# Altium footprint library Chip_kz85.PcbLib: 314 footprints (part 19 of 20)
Each footprint in its own frame and in the unit in brackets; x right, y up, seen from the top. Pads: shape width x height; smd on the part's side, far side on the other; paste and mask are expansions set on the pad; w line width, h text height; cw(c..) or ccw(c..) is an arc to the next point about the centre after c.
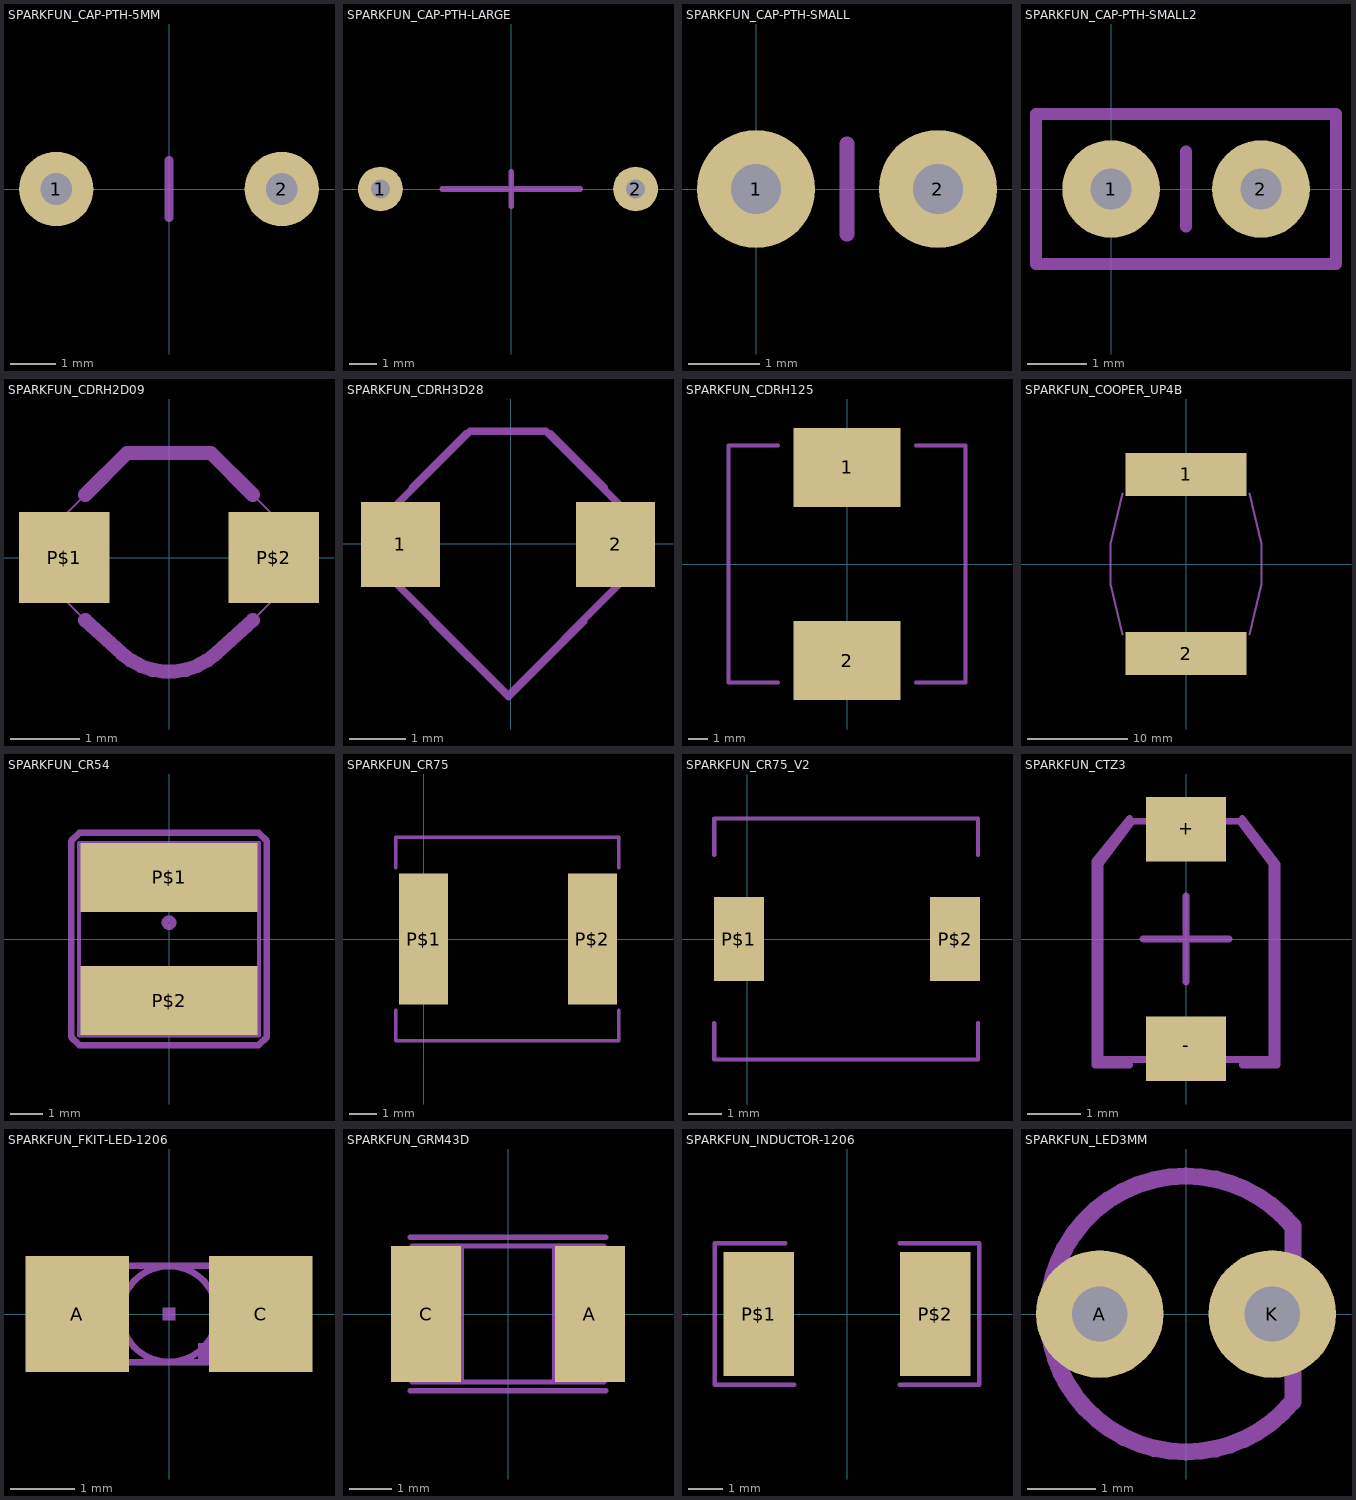
[diagram p18: the footprints below, top view; thin cyan lines are the x and y axes]

## SPARKFUN_CAP-PTH-5MM [mil]
pads (2):
  round 65 hole 27.56: 1(-98.43,0) 2(98.43,0)
Mechanical 7:
  lines w8: 0,-25 0,25

## SPARKFUN_CAP-PTH-LARGE [mil]
pads (2):
  round 65 hole 27.56: 1(-190,0) 2(180,0)
Mechanical 7:
  lines w8: -100,0 0,0 ; 0,-25 0,0 ; 0,25 0,0 ; 100,0 0,0

## SPARKFUN_CAP-PTH-SMALL [mil]
pads (2):
  round 65 hole 27.56: 1(0,0) 2(100,0)
Mechanical 7:
  lines w8: 50,-25 50,25

## SPARKFUN_CAP-PTH-SMALL2 [mil]
pads (2):
  round 65 hole 27.56: 1(0,0) 2(100,0)
Mechanical 7:
  lines w8: 50,-25 50,25 ; -50,-50 150,-50 150,50 -50,50 -50,-50

## SPARKFUN_CDRH2D09 [mil]
pads (2):
  rect 51.18x51.18 smd: P$1(-59.06,0) P$2(59.06,0)
Mechanical 3:
  lines w1.18: -59.06,-23.62 -59.06,23.62 -23.62,59.06 23.62,59.06 59.06,23.62 59.06,-23.62 27.84,-54.84 cw(c0,-27) -27.84,-54.84 -59.06,-23.62
Mechanical 7:
  lines w8: -47.24,-35.43 -26.7,-54.09 ccw(c0,-25.17) 26.7,-54.09 47.24,-35.43 ; -47.24,35.43 -23.62,59.06 23.62,59.06 47.24,35.43

## SPARKFUN_CDRH3D28 [mil]
pads (2):
  rect 55.12x59.06 smd: 1(-76.79,-0.28) 2(72.8,-0.28)
Mechanical 3:
  lines w5: -80.72,-26.65 -80.73,26.1 -28.37,78.45 24.38,78.45 76.74,26.09 76.74,-26.65 ; -80.45,-26.77 -2.11,-105.11 ; -1.99,-105.31 76.78,-26.52
Mechanical 7:
  lines w5: -68.64,39.37 -31.08,76.93 ; -54.27,-53.74 -1.72,-106.3 50.84,-53.74 ; 27.65,76.92 65.21,39.37

## SPARKFUN_CDRH125 [mm]
pads (2):
  rect 5.4x4 smd: 1(0,4.9) 2(0,-4.9)
Mechanical 7:
  lines w0.203: -3.5,-6 -6,-6 -6,6 -3.5,6 ; 3.5,-6 6,-6 6,6 3.5,6

## SPARKFUN_COOPER_UP4B [mil]
pads (2):
  rect 472.44x169.29 smd: 1(0,350.39) 2(0,-350.39)
Mechanical 7:
  lines w8: -248.03,-275.59 -295.28,-78.74 -295.28,78.74 -248.03,275.59 ; 248.03,-275.59 295.28,-78.74 295.28,78.74 248.03,275.59

## SPARKFUN_CR54 [mm]
pads (2):
  rect 5.5x2.15 smd: P$1(0,1.92) P$2(0,-1.92)
Mechanical 3:
  lines w0.127: -2.8,-3 2.8,-3 2.8,2.98 -2.8,2.98 -2.8,-3
Mechanical 7:
  circle w0.203: c0,0.508 r0.127
  lines w0.203: -3.048,-3.048 -2.794,-3.302 2.794,-3.302 3.048,-3.048 3.048,3.048 2.794,3.302 -2.794,3.302 -3.048,3.048 -3.048,-3.048

## SPARKFUN_CR75 [mm]
pads (2):
  rect 1.75x4.7 smd: P$1(0,0) P$2(6.05,0)
Mechanical 7:
  lines w0.127: -1,-2.55 -1,-3.65 7,-3.65 7,-2.55 ; -1,2.55 -1,3.65 7,3.65 7,2.55

## SPARKFUN_CR75_V2 [mil]
pads (2):
  rect 60x100 smd: P$1(-10,0) P$2(248.19,0)
Mechanical 7:
  lines w5: -39.37,-100.39 -39.37,-143.7 275.59,-143.7 275.59,-100.39 ; -39.37,100.39 -39.37,143.7 275.59,143.7 275.59,100.39

## SPARKFUN_CTZ3 [mil]
pads (2):
  rect 59.06x47.24 smd: +(0,80.71) -(0,-80.71)
Mechanical 3:
  lines w5: -31.5,0 31.5,0 ; -19.69,0 19.69,0 ; 0,-31.5 0,31.5 ; -62.99,-88.58 -62.99,55.12 -39.37,86.61 39.37,86.61 62.99,55.12 62.99,-88.58 -62.99,-88.58
Mechanical 7:
  lines w5: -41.34,-92.52 -66.93,-92.52 -66.93,57.09 -41.34,88.58 ; 41.34,-92.52 66.93,-92.52 66.93,55.12 41.34,88.58

## SPARKFUN_FKIT-LED-1206 [mil]
pads (2):
  rect 62.99x70.98 smd: A(-55.98,0) C(55.98,0)
Mechanical 3:
  region: 17.72,-27.56 17.72,-17.72 31.5,-17.72 31.5,-27.56
  region: 31.5,-27.56 31.5,19.69 35.43,19.69 35.43,-27.56
  region: 31.5,21.65 31.5,27.56 35.43,27.56 35.43,21.65
  region: -35.43,-27.56 -35.43,19.69 -31.5,19.69 -31.5,-27.56
  region: -35.43,21.65 -35.43,27.56 -31.5,27.56 -31.5,21.65
  lines w4: -21.65,-19.69 cw(c0.01,0) -21.65,19.69 ; 21.65,-19.69 ccw(c-0.01,0) 21.65,19.69 ; -61.02,-29.53 61.02,-29.53 61.02,29.53 -61.02,29.53 -61.02,-29.53
Mechanical 7:
  region: -3.94,-3.94 -3.94,3.94 3.94,3.94 3.94,-3.94
  region: 17.72,-27.56 17.72,-17.72 23.62,-17.72 23.62,-27.56
  lines w4: -21.65,-19.69 ccw(c0,-0.01) 21.65,-19.69 ; -21.65,19.69 cw(c0,0.01) 21.65,19.69

## SPARKFUN_GRM43D [mm]
pads (2):
  rect 1.65x3.2 smd: A(1.927,0) C(-1.927,0)
Mechanical 3:
  region: -2.2,-1.6 -2.2,1.6 -1.1,1.6 -1.1,-1.6
  region: 1.1,-1.6 1.1,1.6 2.2,1.6 2.2,-1.6
  lines w0.127: -1.1,-1.6 -2.25,-1.6 -2.25,1.6 -1.1,1.6 ; -1.1,-1.6 1.1,-1.6 ; -1.1,-1.6 -1.1,1.6 ; -1.1,1.6 1.1,1.6 ; 1.1,-1.6 2.25,-1.6 2.25,1.6 1.1,1.6 ; 1.1,-1.6 1.1,1.6
Mechanical 7:
  lines w0.127: -2.3,-1.8 2.3,-1.8 ; -2.3,1.8 2.3,1.8

## SPARKFUN_INDUCTOR-1206 [mil]
pads (2):
  rect 80x140 smd: P$1(-100,0) P$2(100,0)
Mechanical 7:
  lines w5: -70,80 -150,80 -150,-80 -60,-80 ; 60,-80 150,-80 150,80 60,80

## SPARKFUN_LED3MM [mil]
pads (2):
  round 74 hole 32: A(-50,0) K(50,0)
Mechanical 3:
  lines w10: -70.44,37.93 ccw(c0,0.01) -80,0 ccw(c0,0) -68.13,-41.93 ; 62,-50 62,50
Mechanical 7:
  lines w10: -70.59,37.65 cw(c0,0) 0,80 cw(c0.01,0) 61.46,51.22 ; -69.46,-39.69 ccw(c0,0) 0,-80 ccw(c0,0) 61.07,-51.68 ; 62,-51 62,-33 ; 62,31 62,51